# EAGLE library part ORANGEPIZERO (library SBC)
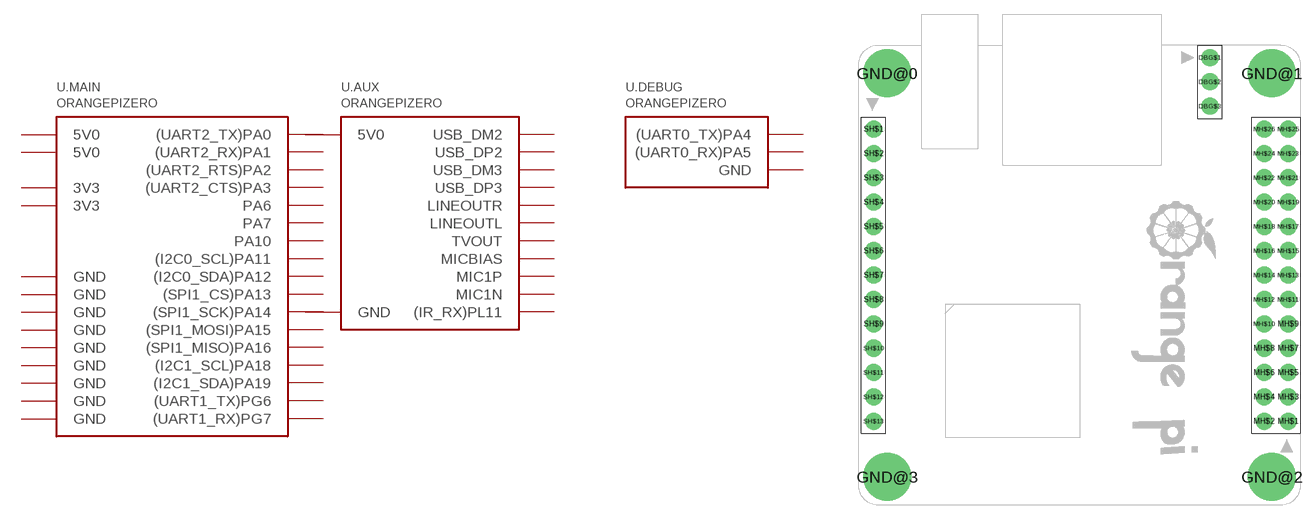
[diagram p2: symbol with the pads of ORANGEPIZERO; footprint ORANGEPIZERO]

Designator prefix U; gates .MAIN=ORANGEPIZERO-MAIN .AUX=ORANGEPIZERO-AUX .DEBUG=ORANGEPIZERO-DBG

## ORANGEPIZERO  [ORANGEPIZERO]
DBG$1  .DEBUG:GND  sup
DBG$2  .DEBUG:(UART0_RX)PA5
DBG$3  .DEBUG:(UART0_TX)PA4
GND@0  .MAIN:GND  sup
GND@1  .MAIN:GND  sup
GND@2  .MAIN:GND  sup
GND@3  .MAIN:GND  sup
MH$1  .MAIN:3V3  sup
MH$2  .MAIN:5V0  sup
MH$3  .MAIN:(I2C0_SDA)PA12
MH$4  .MAIN:5V0  sup
MH$5  .MAIN:(I2C0_SCL)PA11
MH$6  .MAIN:GND  sup
MH$7  .MAIN:PA6
MH$8  .MAIN:(UART1_TX)PG6
MH$9  .MAIN:GND  sup
MH$10  .MAIN:(UART1_RX)PG7
MH$11  .MAIN:(UART2_RX)PA1
MH$12  .MAIN:PA7
MH$13  .MAIN:(UART2_TX)PA0
MH$14  .MAIN:GND  sup
MH$15  .MAIN:(UART2_CTS)PA3
MH$16  .MAIN:(I2C1_SDA)PA19
MH$17  .MAIN:3V3  sup
MH$18  .MAIN:(I2C1_SCL)PA18
MH$19  .MAIN:(SPI1_MOSI)PA15
MH$20  .MAIN:GND  sup
MH$21  .MAIN:(SPI1_MISO)PA16
MH$22  .MAIN:(UART2_RTS)PA2
MH$23  .MAIN:(SPI1_SCK)PA14
MH$24  .MAIN:(SPI1_CS)PA13
MH$25  .MAIN:GND  sup
MH$26  .MAIN:PA10
SH$1  .AUX:5V0  sup
SH$2  .AUX:GND  sup
SH$3  .AUX:USB_DM2
SH$4  .AUX:USB_DP2
SH$5  .AUX:USB_DM3
SH$6  .AUX:USB_DP3
SH$7  .AUX:LINEOUTR
SH$8  .AUX:LINEOUTL
SH$9  .AUX:TVOUT
SH$10  .AUX:MICBIAS
SH$11  .AUX:MIC1P
SH$12  .AUX:MIC1N
SH$13  .AUX:(IR_RX)PL11

## Footprint ORANGEPIZERO (pad centres in mm)
It’s an open-source single-board computer. It can run Android 4.4, Ubuntu, Debian. It uses the AllWinner H2 SoC, and has 256MB/512MB DDR3 SDRAM(256MB version is Standard version
drill 1.016 pad 1.778: DBG$1 13.601,22.704; DBG$2 13.601,20.162; DBG$3 13.601,17.624; MH$1 21.75,-15.24; MH$2 19.24,-15.24; MH$3 21.75,-12.7; MH$4 19.24,-12.7; MH$5 21.75,-10.16; MH$6 19.24,-10.16; MH$7 21.75,-7.62; MH$8 19.24,-7.62; MH$9 21.75,-5.08; MH$10 19.24,-5.08; MH$11 21.75,-2.54; MH$12 19.24,-2.54; MH$13 21.75,0; MH$14 19.24,0; MH$15 21.75,2.54; MH$16 19.24,2.54; MH$17 21.75,5.08; MH$18 19.24,5.08; MH$19 21.75,7.62; MH$20 19.24,7.62; MH$21 21.75,10.16; MH$22 19.24,10.16; MH$23 21.75,12.7; MH$24 19.24,12.7; MH$25 21.75,15.24; MH$26 19.24,15.24; SH$1 -21.469,15.24; SH$2 -21.469,12.7; SH$3 -21.469,10.16; SH$4 -21.469,7.62; SH$5 -21.469,5.08; SH$6 -21.469,2.54; SH$7 -21.469,0; SH$8 -21.469,-2.54; SH$9 -21.469,-5.08; SH$10 -21.469,-7.62; SH$11 -21.469,-10.16; SH$12 -21.469,-12.7; SH$13 -21.469,-15.24
drill 3 pad 5: GND@0 -20.055,21.055; GND@1 20.055,21.055; GND@2 20.055,-21.055; GND@3 -20.055,-21.055